# EAGLE library part TFA9843J (library Audio-Power-amplifier)
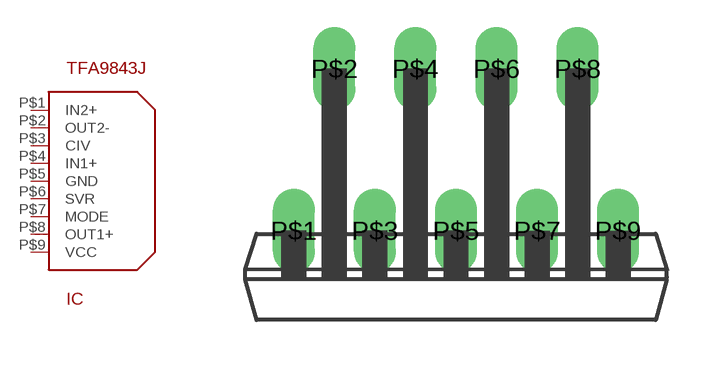
[diagram p43: symbol with the pads of SOT523-1; footprint SOT523-1]

Designator prefix IC

## TFA9843J  [SOT523-1]
P$1  IN2+  in
P$2  OUT2-  out
P$3  CIV
P$4  IN1+  in
P$5  GND  pwr
P$6  SVR
P$7  MODE
P$8  OUT1+  out
P$9  VCC  pwr

## Footprint SOT523-1 (pad centres in mm)
drill 0.8 long: P$1 -5.08,0; P$2 -3.81,5.08; P$3 -2.54,0; P$4 -1.27,5.08; P$5 0,0; P$6 1.27,5.08; P$7 2.54,0; P$8 3.81,5.08; P$9 5.08,0